# Altium footprint library CAP_SMD.PcbLib: 58 footprints (part 1 of 4)
Each footprint in its own frame and in the unit in brackets; x right, y up, seen from the top. Pads: shape width x height; smd on the part's side, far side on the other; paste and mask are expansions set on the pad; w line width, h text height; cw(c..) or ccw(c..) is an arc to the next point about the centre after c.
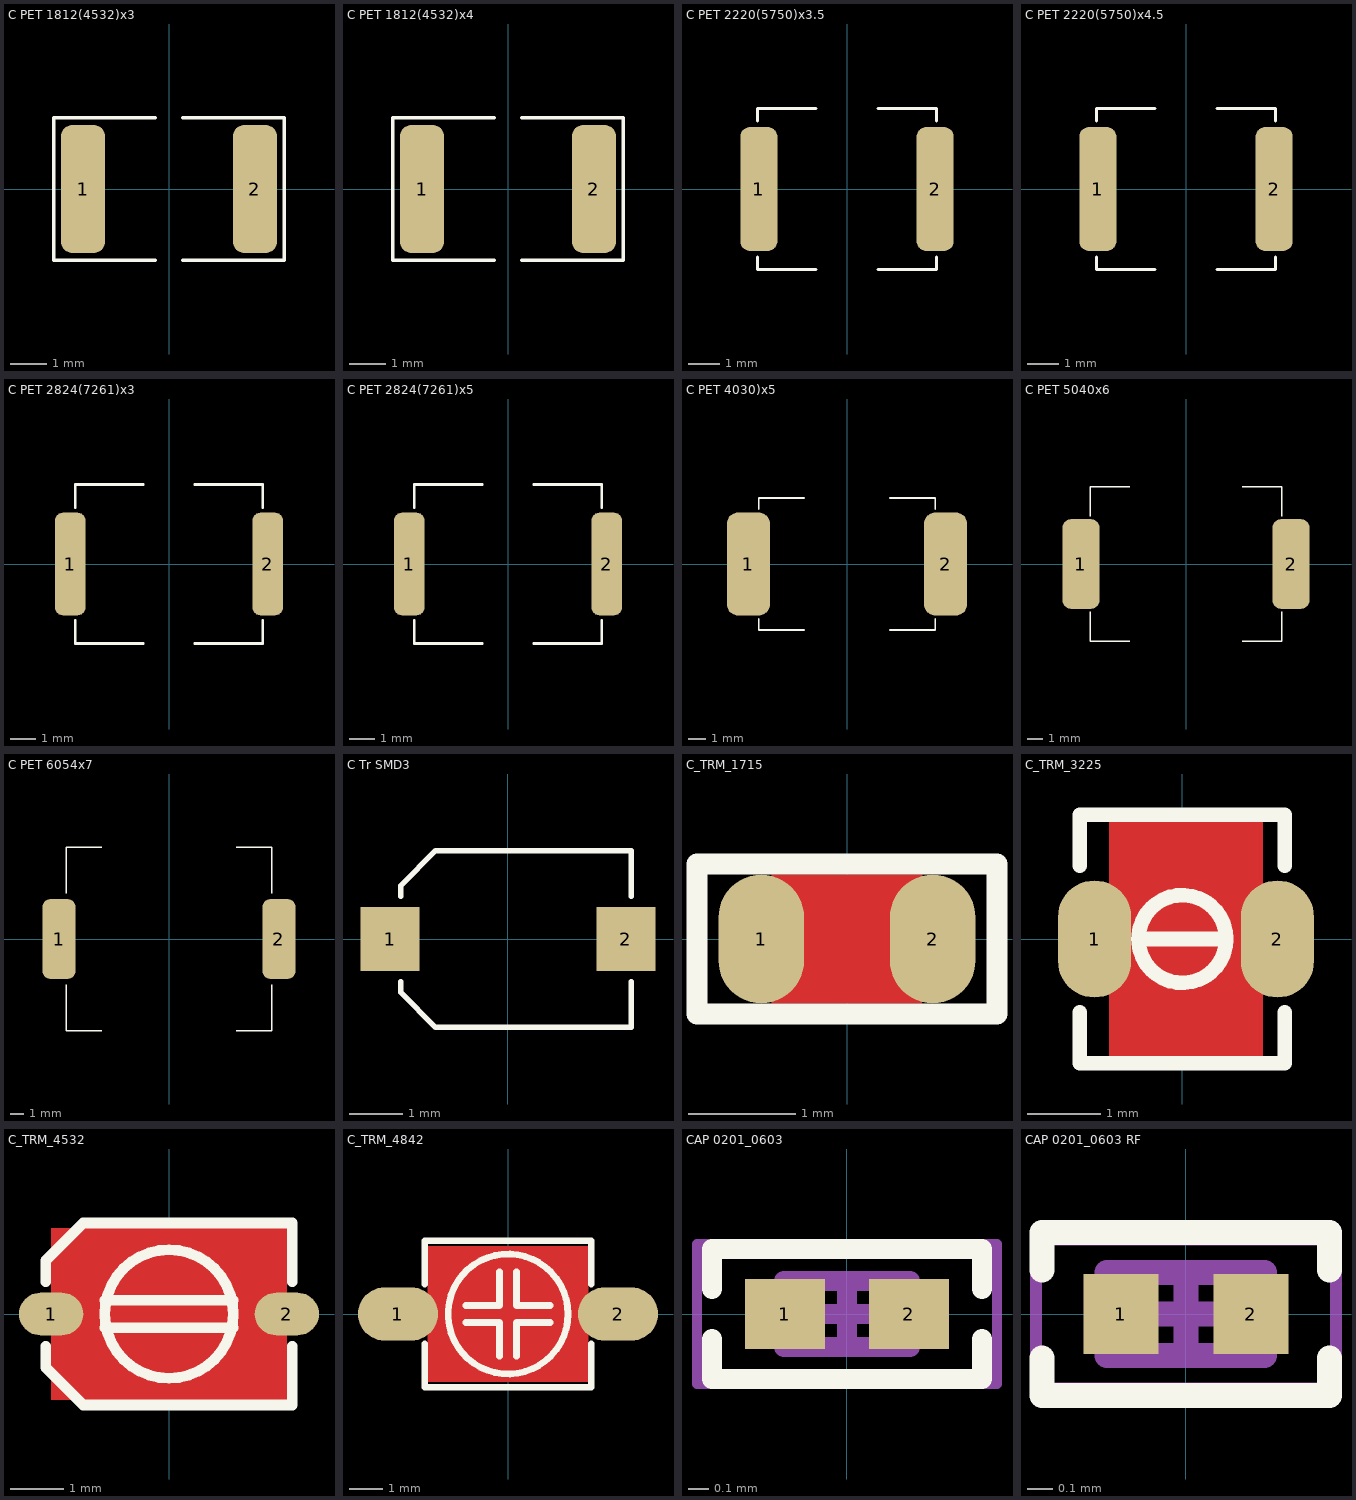
[diagram p0: the footprints below, top view; thin cyan lines are the x and y axes]

## C PET 1812(4532)x3 [mm]
height 3
pads (2):
  rrect50% 1.2x3.5 smd: 1(-2.35,0) 2(2.35,0)
Top Overlay:
  lines w0.1: -0.375,-1.95 -3.15,-1.95 -3.15,1.95 -0.375,1.95 ; 0.375,-1.95 3.15,-1.95 3.15,1.95 0.375,1.95
3D body "Cap 1812x3.0.STEP": height 3, standoff 0, extent -2.4,-1.65 2.4,1.65

## C PET 1812(4532)x4 [mm]
height 4
pads (2):
  rrect50% 1.2x3.5 smd: 1(-2.35,0) 2(2.35,0)
Top Overlay:
  lines w0.1: -0.375,-1.95 -3.15,-1.95 -3.15,1.95 -0.375,1.95 ; 0.375,-1.95 3.15,-1.95 3.15,1.95 0.375,1.95
3D body "Cap 1812x4.0.STEP": height 4, standoff 0, extent -2.4,-1.65 2.4,1.65

## C PET 2220(5750)x3.5 [mm]
height 3.5
pads (2):
  rrect50% 1.2x4 smd: 1(-2.85,0) 2(2.85,0)
Top Overlay:
  lines w0.1: -2.9,-2.2 -2.9,-2.6 -1,-2.6 ; -2.9,2.2 -2.9,2.6 -1,2.6 ; 1,-2.6 2.9,-2.6 2.9,-2.2 ; 1,2.6 2.9,2.6 2.9,2.2
3D body "Cap 2220x3.5.STEP": height 3.5, standoff 0, extent -2.85,-2.55 2.85,2.55

## C PET 2220(5750)x4.5 [mm]
height 4.5
pads (2):
  rrect50% 1.2x4 smd: 1(-2.85,0) 2(2.85,0)
Top Overlay:
  lines w0.1: -2.9,-2.2 -2.9,-2.6 -1,-2.6 ; -2.9,2.2 -2.9,2.6 -1,2.6 ; 1,-2.6 2.9,-2.6 2.9,-2.2 ; 1,2.6 2.9,2.6 2.9,2.2
3D body "Cap 2220x4.5.STEP": height 4.5, standoff 0, extent -2.85,-2.55 2.85,2.55

## C PET 2824(7261)x3 [mm]
height 3
pads (2):
  rrect50% 1.2x4 smd: 1(-3.85,0) 2(3.85,0)
Top Overlay:
  lines w0.1: -3.65,-2.2 -3.65,-3.1 -1,-3.1 ; -3.65,2.2 -3.65,3.1 -1,3.1 ; 1,-3.1 3.65,-3.1 3.65,-2.2 ; 1,3.1 3.65,3.1 3.65,2.2
3D body "Cap 2824x3.0.STEP": height 3, standoff 0, extent -3.6,-3.05 3.6,3.05

## C PET 2824(7261)x5 [mm]
height 5
pads (2):
  rrect50% 1.2x4 smd: 1(-3.85,0) 2(3.85,0)
Top Overlay:
  lines w0.1: -3.65,-2.2 -3.65,-3.1 -1,-3.1 ; -3.65,2.2 -3.65,3.1 -1,3.1 ; 1,-3.1 3.65,-3.1 3.65,-2.2 ; 1,3.1 3.65,3.1 3.65,2.2
3D body "Cap 2824x5.0.STEP": height 5, standoff 0, extent -3.6,-3.05 3.6,3.05

## C PET 4030)x5 [mm]
height 5
pads (2):
  rrect50% 2.5x6 smd: 1(-5.75,0) 2(5.75,0)
Top Overlay:
  lines w0.1: -5.15,-3.2 -5.15,-3.85 -2.5,-3.85 ; -5.15,3.2 -5.15,3.85 -2.5,3.85 ; 2.5,-3.85 5.15,-3.85 5.15,-3.2 ; 2.5,3.85 5.15,3.85 5.15,3.2
3D body "Cap 4030x5.0.STEP": height 5, standoff 0, extent -5.1,-3.8 5.1,3.8

## C PET 5040x6 [mm]
height 6
pads (2):
  rrect50% 2.5x6 smd: 1(-7,0) 2(7,0)
Top Overlay:
  lines w0.1: -6.4,-3.2 -6.4,-5.15 -3.75,-5.15 ; -6.4,3.2 -6.4,5.15 -3.75,5.15 ; 3.75,-5.15 6.4,-5.15 6.4,-3.2 ; 3.75,5.15 6.4,5.15 6.4,3.2
3D body "Cap 5040x6.0.STEP": height 6, standoff 0, extent -6.35,-5.1 6.35,5.1

## C PET 6054x7 [mm]
height 7
pads (2):
  rrect50% 2.5x6 smd: 1(-8.25,0) 2(8.25,0)
Top Overlay:
  lines w0.1: -7.7,-3.425 -7.7,-6.9 -5.05,-6.9 ; -7.7,3.425 -7.7,6.9 -5.05,6.9 ; 5.05,-6.9 7.7,-6.9 7.7,-3.425 ; 5.05,6.9 7.7,6.9 7.7,3.425
3D body "Cap 6054x7.0.STEP": height 7, standoff 0, extent -7.65,-6.85 7.65,6.85

## C Tr SMD3 [mm]
pads (2):
  rect 1.1x1.2 smd: 1(-2.2,0) 2(2.2,0)
Top Overlay:
  lines w0.1: -2,-0.8 -2,-1 -1.35,-1.65 2.3,-1.65 2.3,-0.8 ; -2,0.8 -2,1 -1.35,1.65 2.3,1.65 2.3,0.8
3D body "Cap Trimer SMD TZC3R100A110B00.STEP": height 1.6, standoff 0, extent -2.25,-1.6 2.25,1.6

## C_TRM_1715 [mm] "Cap, Trimmer TZR1 1.7mmX1.5mm"
pads (2):
  oval 0.8x1.2 smd mask+0.075: 1(-0.8,0) 2(0.8,0)
Top Layer:
  pour cut-out: -0.7,0.6 0.7,0.6 0.7,-0.6 -0.7,-0.6
Top Overlay:
  lines w0.2: -1.4,-0.7 1.4,-0.7 1.4,0.7 -1.4,0.7 -1.4,-0.7
3D body "User Library-TZR1.STEP": height 1, standoff -0.01, extent -0.864,-0.75 0.85,0.75

## C_TRM_3225 [mm] "Cap, Trimmer TZY2 3.2mmX2.5mm"
pads (2):
  oval 1x1.6 smd: 1(-1.2,0) 2(1.3,0)
Top Layer:
  pour cut-out: -1,1.7 1.1,1.7 1.1,-1.6 -1,-1.6
Top Overlay:
  circle w0.2: c0,0 r0.6
  lines w0.2: -1.4,-1 -1.4,-1.7 1.4,-1.7 1.4,-1 ; -1.4,1 -1.4,1.7 1.4,1.7 1.4,1 ; -0.6,0 0.6,0
3D body "User Library-tzy2seriestrimcap.step": height 1.24, standoff -0.01, extent -1.25,-1.6 1.25,1.6

## C_TRM_4532 [mm] "Cap, Trimmer TZC3 4.5X3.2mm"
pads (2):
  oval 1.2x0.8 smd: 1(-2.2,0) 2(2.2,0)
Top Layer:
  pour cut-out: -2.2,1.6 2.2,1.6 2.2,-1.6 -2.2,-1.6
Top Overlay:
  circle w0.2: c0,0 r1.2
  lines w0.2: -2.3,-0.6 -2.3,-1 -1.6,-1.7 2.3,-1.7 2.3,-0.6 ; -2.3,0.6 -2.3,1 -1.6,1.7 2.3,1.7 2.3,0.6 ; -1.2,-0.254 1.2,-0.254 ; -1.2,0.254 1.2,0.254
3D body "User Library-TZC3P300A110R00.STEP": height 1.6, standoff 0, extent -2.25,-1.6 2.25,1.6

## C_TRM_4842 [mm] "Cap, Trimmer SMD 4.8x4.2mm"
pads (2):
  oval 2.4x1.6 smd: 1(-3.3,0) 2(3.3,0)
Top Layer:
  pour cut-out: -2.413,2.032 2.413,2.032 2.413,-2.032 -2.413,-2.032
Top Overlay:
  circle w0.2: c0,0 r1.8
  lines w0.2: -2.5,-0.9 -2.5,-2.2 2.5,-2.2 2.5,-0.9 ; -2.5,0.9 -2.5,2.2 2.5,2.2 2.5,0.9 ; -1.27,-0.254 -0.254,-0.254 -0.254,-1.27 ; -1.27,0.254 -0.254,0.254 -0.254,1.27 ; 0.254,-1.27 0.254,-0.254 1.27,-0.254 ; 0.254,1.27 0.254,0.254 1.27,0.254
3D body "User Library-trimmer.step": height 3.25, standoff 0, extent -3.523,-2.1 3.523,2.1

## CAP 0201_0603 [mm] "Chip Capacitor, 2-Leads, Body 0.60x0.30mm, IPC Medium Density"
height 0.33
pads (2):
  rect 0.4x0.35 smd: 1(-0.31,0) 2(0.31,0)
Top Overlay:
  lines w0.1: -0.675,-0.125 -0.675,-0.325 0.675,-0.325 0.675,-0.125 ; -0.675,0.125 -0.675,0.325 0.675,0.325 0.675,0.125
Mechanical 13:
  lines w0.1: -0.315,-0.165 -0.315,0.165 0.315,0.165 0.315,-0.165 -0.315,-0.165
Mechanical 15:
  lines w0.05: -0.75,-0.35 -0.75,0.35 0.75,0.35 0.75,-0.35 -0.75,-0.35
  lines w0.1: -0.165,0 0.165,0 ; 0,-0.165 0,0.165
3D body "CAP 0201.STEP": height 0.3, standoff 0, extent -0.3,-0.15 0.3,0.15

## CAP 0201_0603 RF [mm] "Chip Capacitor, 2-Leads, Body 0.60x0.30mm, IPC High Density"
height 0.33
pads (2):
  rect 0.3x0.32 smd: 1(-0.26,0) 2(0.26,0)
Top Overlay:
  lines w0.1: -0.575,-0.175 -0.575,-0.325 0.575,-0.325 0.575,-0.175 ; -0.575,0.175 -0.575,0.325 0.575,0.325 0.575,0.175
Mechanical 13:
  lines w0.1: -0.315,-0.165 -0.315,0.165 0.315,0.165 0.315,-0.165 -0.315,-0.165
Mechanical 15:
  lines w0.05: -0.6,-0.3 -0.6,0.3 0.6,0.3 0.6,-0.3 -0.6,-0.3
  lines w0.1: -0.165,0 0.165,0 ; 0,-0.165 0,0.165
3D body "CAP 0201.STEP": height 0.3, standoff 0, extent -0.3,-0.15 0.3,0.15